# Altium integrated library W02G-E4_51.IntLib: 1 symbol
Pins are listed as number, name and electrical type; pins without a type are passive.

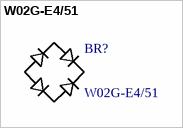
[diagram p0: symbol W02G-E4/51]

## W02G-E4/51
designator BR?
Diode Rectifier Bridge Single 200V 1.5A 4-Pin Case WOG Bulk; MF: Vishay; Availability: Good; MP: W02G-E4/51; Package: 4-4 Vishay; Price: 0.35 USD; Value: *
footprint DIOB_W02G-E4/51
pins: 1 AC1, 2 +, 3 AC2, 4 -